# EAGLE library part FPGA,EP4SGX70DF29(STRATIX4GX,780BGA) (library QuantumOptics)
FPGA, Stratix IV GX EP4SGX70
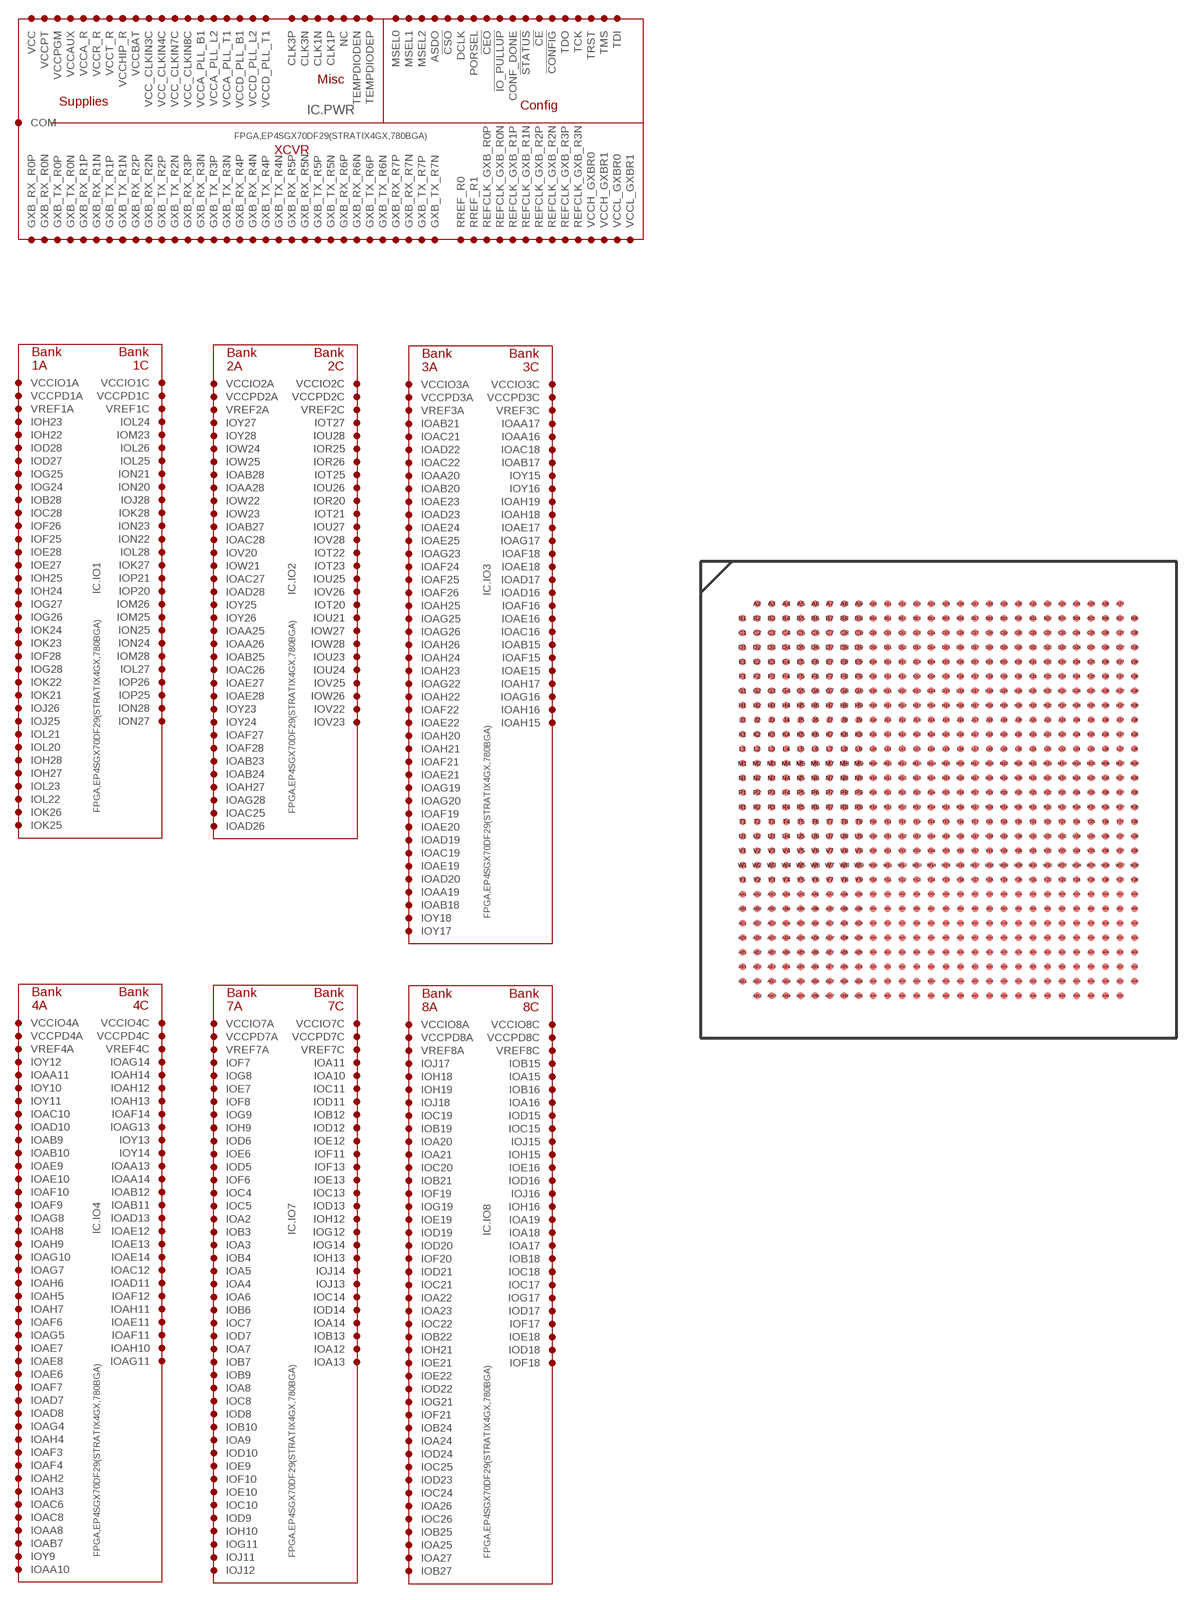
[diagram p210: symbol with the pads of BGA-780(1MM_GRID),ALTERA; footprint BGA-780(1MM_GRID),ALTERA]

Designator prefix IC; gates .PWR=FPGA,EP4SGX70DF29(STRATIX4GX,780BGA)[POWER] .IO1=FPGA,EP4SGX70DF29(STRATIX4GX,780BGA)[IO1] .IO2=FPGA,EP4SGX70DF29(STRATIX4GX,780BGA)[IO2] .IO3=FPGA,EP4SGX70DF29(STRATIX4GX,780BGA)[IO3] .IO4=FPGA,EP4SGX70DF29(STRATIX4GX,780BGA)[IO4] .IO7=FPGA,EP4SGX70DF29(STRATIX4GX,780BGA)[IO7] .IO8=FPGA,EP4SGX70DF29(STRATIX4GX,780BGA)[IO8]

## FPGA,EP4SGX70DF29(STRATIX4GX,780BGA)-BGA780(1MM)  [BGA-780(1MM_GRID),ALTERA]
A2  .IO7:IOA2
A3  .IO7:IOA3
A4  .IO7:IOA4
A5  .IO7:IOA5
A6  .IO7:IOA6
A7  .IO7:IOA7
A8  .IO7:IOA8
A9  .IO7:IOA9
A10  .IO7:IOA10
A11  .IO7:IOA11
A12  .IO7:IOA12
A13  .IO7:IOA13
A14  .IO7:IOA14
A15  .IO8:IOA15
A16  .IO8:IOA16
A17  .IO8:IOA17
A18  .IO8:IOA18
A19  .IO8:IOA19
A20  .IO8:IOA20
A21  .IO8:IOA21
A22  .IO8:IOA22
A23  .IO8:IOA23
A24  .IO8:IOA24
A25  .IO8:IOA25
A26  .IO8:IOA26
A27  .IO8:IOA27
AA1  .PWR:COM
AA2  .PWR:COM
AA3  .PWR:GXB_TX_R1N
AA4  .PWR:GXB_TX_R1P
AA5  .PWR:NC  nc
AA6  .PWR:COM
AA7  .PWR:VCCAUX
AA8  .IO4:IOAA8
AA9  .PWR:COM
AA10  .IO4:IOAA10
AA11  .IO4:IOAA11
AA12  .PWR:COM
AA13  .IO4:IOAA13
AA14  .IO4:IOAA14
AA15  .PWR:COM
AA16  .IO3:IOAA16
AA17  .IO3:IOAA17
AA18  .PWR:COM
AA19  .IO3:IOAA19
AA20  .IO3:IOAA20
AA21  .PWR:COM
AA22  .PWR:!CONFIG
AA23  .IO2:VCCIO2A
AA24  .PWR:COM
AA25  .IO2:IOAA25
AA26  .IO2:IOAA26
AA27  .PWR:COM
AA28  .IO2:IOAA28
AB1  .PWR:GXB_RX_R1N
AB2  .PWR:GXB_RX_R1P
AB3  .PWR:COM
AB4  .PWR:COM
AB5  .PWR:NC  nc
AB6  .PWR:NC  nc
AB7  .IO4:IOAB7
AB8  .IO4:VREF4A
AB9  .IO4:IOAB9
AB10  .IO4:IOAB10
AB11  .IO4:IOAB11
AB12  .IO4:IOAB12
AB13  .IO4:VREF4C
AB14  .PWR:VCCPT
AB15  .IO3:IOAB15
AB16  .IO3:VREF3C
AB17  .IO3:IOAB17
AB18  .IO3:IOAB18
AB19  .IO3:VREF3A
AB20  .IO3:IOAB20
AB21  .IO3:IOAB21
AB22  .PWR:VCCAUX
AB23  .IO2:IOAB23
AB24  .IO2:IOAB24
AB25  .IO2:IOAB25
AB26  .IO2:VCCIO2A
AB27  .IO2:IOAB27
AB28  .IO2:IOAB28
AC1  .PWR:COM
AC2  .PWR:COM
AC3  .PWR:GXB_TX_R0N
AC4  .PWR:GXB_TX_R0P
AC5  .PWR:NC  nc
AC6  .IO4:IOAC6
AC7  .IO4:VCCIO4A
AC8  .IO4:IOAC8
AC9  .IO4:VCCIO4A
AC10  .IO4:IOAC10
AC11  .IO4:VCCIO4C
AC12  .IO4:IOAC12
AC13  .PWR:VCC_CLKIN4C
AC14  .PWR:VCCA_PLL_B1
AC15  .PWR:VCCD_PLL_B1
AC16  .IO3:IOAC16
AC17  .IO3:VCCIO3C
AC18  .IO3:IOAC18
AC19  .IO3:IOAC19
AC20  .IO3:VCCIO3A
AC21  .IO3:IOAC21
AC22  .IO3:IOAC22
AC23  .PWR:!STATUS
AC24  .PWR:CONF_DONE
AC25  .IO2:IOAC25
AC26  .IO2:IOAC26
AC27  .IO2:IOAC27
AC28  .IO2:IOAC28
AD1  .PWR:GXB_RX_R0N
AD2  .PWR:GXB_RX_R0P
AD3  .PWR:COM
AD4  .PWR:COM
AD5  .PWR:NC  nc
AD6  .PWR:COM
AD7  .IO4:IOAD7
AD8  .IO4:IOAD8
AD9  .PWR:COM
AD10  .IO4:IOAD10
AD11  .IO4:IOAD11
AD12  .PWR:COM
AD13  .IO4:IOAD13
AD14  .PWR:VCC_CLKIN3C
AD15  .PWR:COM
AD16  .IO3:IOAD16
AD17  .IO3:IOAD17
AD18  .PWR:COM
AD19  .IO3:IOAD19
AD20  .IO3:IOAD20
AD21  .PWR:COM
AD22  .IO3:IOAD22
AD23  .IO3:IOAD23
AD24  .PWR:COM
AD25  .IO2:VCCIO2A
AD26  .IO2:IOAD26
AD27  .PWR:COM
AD28  .IO2:IOAD28
AE1  .PWR:COM
AE2  .PWR:COM
AE3  .PWR:NC  nc
AE4  .PWR:NC  nc
AE5  .PWR:NC  nc
AE6  .IO4:IOAE6
AE7  .IO4:IOAE7
AE8  .IO4:IOAE8
AE9  .IO4:IOAE9
AE10  .IO4:IOAE10
AE11  .IO4:IOAE11
AE12  .IO4:IOAE12
AE13  .IO4:IOAE13
AE14  .IO4:IOAE14
AE15  .IO3:IOAE15
AE16  .IO3:IOAE16
AE17  .IO3:IOAE17
AE18  .IO3:IOAE18
AE19  .IO3:IOAE19
AE20  .IO3:IOAE20
AE21  .IO3:IOAE21
AE22  .IO3:IOAE22
AE23  .IO3:IOAE23
AE24  .IO3:IOAE24
AE25  .IO3:IOAE25
AE26  .PWR:NC  nc
AE27  .IO2:IOAE27
AE28  .IO2:IOAE28
AF1  .PWR:RREF_R0
AF2  .PWR:COM
AF3  .IO4:IOAF3
AF4  .IO4:IOAF4
AF5  .IO4:VCCIO4A
AF6  .IO4:IOAF6
AF7  .IO4:IOAF7
AF8  .IO4:VCCIO4A
AF9  .IO4:IOAF9
AF10  .IO4:IOAF10
AF11  .IO4:IOAF11
AF12  .IO4:IOAF12
AF13  .IO4:VCCIO4C
AF14  .IO4:IOAF14
AF15  .IO3:IOAF15
AF16  .IO3:IOAF16
AF17  .IO3:VCCIO3C
AF18  .IO3:IOAF18
AF19  .IO3:IOAF19
AF20  .IO3:VCCIO3A
AF21  .IO3:IOAF21
AF22  .IO3:IOAF22
AF23  .IO3:VCCIO3A
AF24  .IO3:IOAF24
AF25  .IO3:IOAF25
AF26  .IO3:IOAF26
AF27  .IO2:IOAF27
AF28  .IO2:IOAF28
AG1  .PWR:COM
AG2  .PWR:COM
AG3  .PWR:COM
AG4  .IO4:IOAG4
AG5  .IO4:IOAG5
AG6  .PWR:COM
AG7  .IO4:IOAG7
AG8  .IO4:IOAG8
AG9  .PWR:COM
AG10  .IO4:IOAG10
AG11  .IO4:IOAG11
AG12  .PWR:COM
AG13  .IO4:IOAG13
AG14  .IO4:IOAG14
AG15  .PWR:COM
AG16  .IO3:IOAG16
AG17  .IO3:IOAG17
AG18  .PWR:COM
AG19  .IO3:IOAG19
AG20  .IO3:IOAG20
AG21  .PWR:COM
AG22  .IO3:IOAG22
AG23  .IO3:IOAG23
AG24  .PWR:COM
AG25  .IO3:IOAG25
AG26  .IO3:IOAG26
AG27  .PWR:COM
AG28  .IO2:IOAG28
AH2  .IO4:IOAH2
AH3  .IO4:IOAH3
AH4  .IO4:IOAH4
AH5  .IO4:IOAH5
AH6  .IO4:IOAH6
AH7  .IO4:IOAH7
AH8  .IO4:IOAH8
AH9  .IO4:IOAH9
AH10  .IO4:IOAH10
AH11  .IO4:IOAH11
AH12  .IO4:IOAH12
AH13  .IO4:IOAH13
AH14  .IO4:IOAH14
AH15  .IO3:IOAH15
AH16  .IO3:IOAH16
AH17  .IO3:IOAH17
AH18  .IO3:IOAH18
AH19  .IO3:IOAH19
AH20  .IO3:IOAH20
AH21  .IO3:IOAH21
AH22  .IO3:IOAH22
AH23  .IO3:IOAH23
AH24  .IO3:IOAH24
AH25  .IO3:IOAH25
AH26  .IO3:IOAH26
AH27  .IO2:IOAH27
B1  .PWR:NC  nc
B2  .PWR:COM
B3  .IO7:IOB3
B4  .IO7:IOB4
B5  .PWR:COM
B6  .IO7:IOB6
B7  .IO7:IOB7
B8  .PWR:COM
B9  .IO7:IOB9
B10  .IO7:IOB10
B11  .PWR:COM
B12  .IO7:IOB12
B13  .IO7:IOB13
B14  .PWR:COM
B15  .IO8:IOB15
B16  .IO8:IOB16
B17  .PWR:COM
B18  .IO8:IOB18
B19  .IO8:IOB19
B20  .PWR:COM
B21  .IO8:IOB21
B22  .IO8:IOB22
B23  .PWR:COM
B24  .IO8:IOB24
B25  .IO8:IOB25
B26  .PWR:COM
B27  .IO8:IOB27
B28  .IO1:IOB28
C1  .PWR:COM
C2  .PWR:COM
C3  .PWR:NC  nc
C4  .IO7:IOC4
C5  .IO7:IOC5
C6  .IO7:VCCIO7A
C7  .IO7:IOC7
C8  .IO7:IOC8
C9  .IO7:VCCIO7A
C10  .IO7:IOC10
C11  .IO7:IOC11
C12  .IO7:VCCIO7C
C13  .IO7:IOC13
C14  .IO7:IOC14
C15  .IO8:IOC15
C16  .IO8:VCCIO8C
C17  .IO8:IOC17
C18  .IO8:IOC18
C19  .IO8:IOC19
C20  .IO8:IOC20
C21  .IO8:IOC21
C22  .IO8:IOC22
C23  .IO8:VCCIO8A
C24  .IO8:IOC24
C25  .IO8:IOC25
C26  .IO8:IOC26
C27  .PWR:COM
C28  .IO1:IOC28
D1  .PWR:RREF_R1
D2  .PWR:COM
D3  .PWR:COM
D4  .PWR:COM
D5  .IO7:IOD5
D6  .IO7:IOD6
D7  .IO7:IOD7
D8  .IO7:IOD8
D9  .IO7:IOD9
D10  .IO7:IOD10
D11  .IO7:IOD11
D12  .IO7:IOD12
D13  .IO7:IOD13
D14  .IO7:IOD14
D15  .IO8:IOD15
D16  .IO8:IOD16
D17  .IO8:IOD17
D18  .IO8:IOD18
D19  .IO8:IOD19
D20  .IO8:IOD20
D21  .IO8:IOD21
D22  .IO8:IOD22
D23  .IO8:IOD23
D24  .IO8:IOD24
D25  .PWR:TCK
D26  .PWR:TRST
D27  .IO1:IOD27
D28  .IO1:IOD28
E1  .PWR:COM
E2  .PWR:COM
E3  .PWR:GXB_TX_R7N
E4  .PWR:GXB_TX_R7P
E5  .PWR:COM
E6  .IO7:IOE6
E7  .IO7:IOE7
E8  .PWR:COM
E9  .IO7:IOE9
E10  .IO7:IOE10
E11  .PWR:COM
E12  .IO7:IOE12
E13  .IO7:IOE13
E14  .PWR:COM
E15  .PWR:VCCA_PLL_T1
E16  .IO8:IOE16
E17  .PWR:COM
E18  .IO8:IOE18
E19  .IO8:IOE19
E20  .PWR:COM
E21  .IO8:IOE21
E22  .IO8:IOE22
E23  .PWR:COM
E24  .IO8:VCCIO8A
E25  .PWR:TDO
E26  .IO1:VCCIO1A
E27  .IO1:IOE27
E28  .IO1:IOE28
F1  .PWR:GXB_RX_R7N
F2  .PWR:GXB_RX_R7P
F3  .PWR:COM
F4  .PWR:COM
F5  .PWR:NC  nc
F6  .IO7:IOF6
F7  .IO7:IOF7
F8  .IO7:IOF8
F9  .IO7:VCCIO7A
F10  .IO7:IOF10
F11  .IO7:IOF11
F12  .IO7:VCCIO7C
F13  .IO7:IOF13
F14  .PWR:VCC_CLKIN7C
F15  .PWR:VCCD_PLL_T1
F16  .PWR:VCC_CLKIN8C
F17  .IO8:IOF17
F18  .IO8:IOF18
F19  .IO8:IOF19
F20  .IO8:IOF20
F21  .IO8:IOF21
F22  .IO8:VCCIO8A
F23  .PWR:NC  nc
F24  .PWR:COM
F25  .IO1:IOF25
F26  .IO1:IOF26
F27  .PWR:COM
F28  .IO1:IOF28
G1  .PWR:COM
G2  .PWR:COM
G3  .PWR:GXB_TX_R6N
G4  .PWR:GXB_TX_R6P
G5  .PWR:NC  nc
G6  .PWR:TEMPDIODEP
G7  .PWR:VCCAUX
G8  .IO7:IOG8
G9  .IO7:IOG9
G10  .IO7:VREF7A
G11  .IO7:IOG11
G12  .IO7:IOG12
G13  .IO7:VREF7C
G14  .IO7:IOG14
G15  .PWR:VCCPT
G16  .IO8:VREF8C
G17  .IO8:IOG17
G18  .IO8:VCCIO8C
G19  .IO8:IOG19
G20  .IO8:VREF8A
G21  .IO8:IOG21
G22  .PWR:VCCAUX
G23  .PWR:TMS
G24  .IO1:IOG24
G25  .IO1:IOG25
G26  .IO1:IOG26
G27  .IO1:IOG27
G28  .IO1:IOG28
H1  .PWR:GXB_RX_R6N
H2  .PWR:GXB_RX_R6P
H3  .PWR:COM
H4  .PWR:COM
H5  .PWR:COM
H6  .PWR:VCCBAT
H7  .PWR:TEMPDIODEN
H8  .PWR:COM
H9  .IO7:IOH9
H10  .IO7:IOH10
H11  .PWR:COM
H12  .IO7:IOH12
H13  .IO7:IOH13
H14  .PWR:COM
H15  .IO8:IOH15
H16  .IO8:IOH16
H17  .PWR:COM
H18  .IO8:IOH18
H19  .IO8:IOH19
H20  .PWR:COM
H21  .IO8:IOH21
H22  .IO1:IOH22
H23  .IO1:IOH23
H24  .IO1:IOH24
H25  .IO1:IOH25
H26  .IO1:VCCIO1A
H27  .IO1:IOH27
H28  .IO1:IOH28
J1  .PWR:COM
J2  .PWR:COM
J3  .PWR:REFCLK_GXB_R3N
J4  .PWR:REFCLK_GXB_R3P
J5  .PWR:NC  nc
J6  .PWR:NC  nc
J7  .PWR:MSEL2
J8  .PWR:NC  nc
J9  .PWR:MSEL1
J10  .IO7:VCCIO7A
J11  .IO7:IOJ11
J12  .IO7:IOJ12
J13  .IO7:IOJ13
J14  .IO7:IOJ14
J15  .IO8:IOJ15
J16  .IO8:IOJ16
J17  .IO8:IOJ17
J18  .IO8:IOJ18
J19  .IO8:VCCIO8A
J20  .PWR:TDI
J21  .PWR:COM
J22  .IO1:VREF1A
J23  .IO1:VCCIO1A
J24  .PWR:COM
J25  .IO1:IOJ25
J26  .IO1:IOJ26
J27  .PWR:COM
J28  .IO1:IOJ28
K1  .PWR:REFCLK_GXB_R2N
K2  .PWR:REFCLK_GXB_R2P
K3  .PWR:COM
K4  .PWR:COM
K5  .PWR:NC  nc
K6  .PWR:NC  nc
K7  .PWR:NC  nc
K8  .PWR:NC  nc
K9  .PWR:MSEL0
K10  .PWR:NC  nc
K11  .PWR:COM
K12  .IO7:VCCPD7A
K13  .PWR:COM
K14  .IO7:VCCPD7C
K15  .PWR:COM
K16  .IO8:VCCPD8C
K17  .PWR:COM
K18  .IO8:VCCPD8A
K19  .PWR:COM
K20  .PWR:NC  nc
K21  .IO1:IOK21
K22  .IO1:IOK22
K23  .IO1:IOK23
K24  .IO1:IOK24
K25  .IO1:IOK25
K26  .IO1:IOK26
K27  .IO1:IOK27
K28  .IO1:IOK28
L1  .PWR:COM
L2  .PWR:COM
L3  .PWR:GXB_TX_R5N
L4  .PWR:GXB_TX_R5P
L5  .PWR:COM
L6  .PWR:VCCH_GXBR1
L7  .PWR:NC  nc
L8  .PWR:COM
L9  .PWR:NC  nc
L10  .PWR:NC  nc
L11  .PWR:VCC
L12  .PWR:COM
L13  .PWR:VCC
L14  .PWR:COM
L15  .PWR:VCC
L16  .PWR:COM
L17  .PWR:VCC
L18  .PWR:COM
L19  .IO1:VCCPD1A
L20  .IO1:IOL20
L21  .IO1:IOL21
L22  .IO1:IOL22
L23  .IO1:IOL23
L24  .IO1:IOL24
L25  .IO1:IOL25
L26  .IO1:IOL26
L27  .IO1:IOL27
L28  .IO1:IOL28
M1  .PWR:GXB_RX_R5N
M2  .PWR:GXB_RX_R5P
M3  .PWR:COM
M4  .PWR:COM
M5  .PWR:VCCR_R
M6  .PWR:COM
M7  .PWR:VCC
M8  .PWR:VCC
M9  .PWR:NC  nc
M10  .PWR:NC  nc
M11  .PWR:COM
M12  .PWR:VCC
M13  .PWR:COM
M14  .PWR:VCC
M15  .PWR:COM
M16  .PWR:VCC
M17  .PWR:COM
M18  .PWR:VCC
M19  .PWR:COM
M20  .PWR:NC  nc
M21  .PWR:COM
M22  .IO1:VREF1C
M23  .IO1:IOM23
M24  .PWR:COM
M25  .IO1:IOM25
M26  .IO1:IOM26
M27  .PWR:COM
M28  .IO1:IOM28
N1  .PWR:COM
N2  .PWR:COM
N3  .PWR:GXB_TX_R4N
N4  .PWR:GXB_TX_R4P
N5  .PWR:COM
N6  .PWR:VCCA_R
N7  .PWR:COM
N8  .PWR:VCCL_GXBR1
N9  .PWR:VCCHIP_R
N10  .PWR:NC  nc
N11  .PWR:VCC
N12  .PWR:COM
N13  .PWR:VCC
N14  .PWR:COM
N15  .PWR:VCC
N16  .PWR:COM
N17  .PWR:VCC
N18  .PWR:COM
N19  .IO1:VCCPD1C
N20  .IO1:ION20
N21  .IO1:ION21
N22  .IO1:ION22
N23  .IO1:ION23
N24  .IO1:ION24
N25  .IO1:ION25
N26  .IO1:VCCIO1C
N27  .IO1:ION27
N28  .IO1:ION28
P1  .PWR:GXB_RX_R4N
P2  .PWR:GXB_RX_R4P
P3  .PWR:COM
P4  .PWR:COM
P5  .PWR:VCCT_R
P6  .PWR:COM
P7  .PWR:VCCL_GXBR1
P8  .PWR:COM
P9  .PWR:VCCHIP_R
P10  .PWR:VCCPT
P11  .PWR:COM
P12  .PWR:VCC
P13  .PWR:COM
P14  .PWR:VCC
P15  .PWR:COM
P16  .PWR:VCC
P17  .PWR:COM
P18  .PWR:VCC
P19  .PWR:COM
P20  .IO1:IOP20
P21  .IO1:IOP21
P22  .PWR:VCCPT
P23  .PWR:VCCD_PLL_L2
P24  .IO1:VCCIO1C
P25  .IO1:IOP25
P26  .IO1:IOP26
P27  .PWR:CLK1P
P28  .PWR:CLK1N
R1  .PWR:COM
R2  .PWR:COM
R3  .PWR:GXB_TX_R3N
R4  .PWR:GXB_TX_R3P
R5  .PWR:COM
R6  .PWR:VCCR_R
R7  .PWR:COM
R8  .PWR:VCCL_GXBR0
R9  .PWR:VCCHIP_R
R10  .PWR:VCCPT
R11  .PWR:VCC
R12  .PWR:COM
R13  .PWR:VCC
R14  .PWR:NC  nc
R15  .PWR:VCC
R16  .PWR:COM
R17  .PWR:VCC
R18  .PWR:COM
R19  .IO2:VCCPD2C
R20  .IO2:IOR20
R21  .PWR:COM
R22  .PWR:VCCPT
R23  .PWR:VCCA_PLL_L2
R24  .PWR:COM
R25  .IO2:IOR25
R26  .IO2:IOR26
R27  .PWR:COM
R28  .PWR:CLK3N
T1  .PWR:GXB_RX_R3N
T2  .PWR:GXB_RX_R3P
T3  .PWR:COM
T4  .PWR:COM
T5  .PWR:VCCA_R
T6  .PWR:COM
T7  .PWR:VCCL_GXBR0
T8  .PWR:COM
T9  .PWR:NC  nc
T10  .PWR:NC  nc
T11  .PWR:COM
T12  .PWR:VCC
T13  .PWR:COM
T14  .PWR:VCC
T15  .PWR:COM
T16  .PWR:VCC
T17  .PWR:COM
T18  .PWR:VCC
T19  .PWR:COM
T20  .IO2:IOT20
T21  .IO2:IOT21
T22  .IO2:IOT22
T23  .IO2:IOT23
T24  .IO2:VCCIO2C
T25  .IO2:IOT25
T26  .IO2:VCCIO2C
T27  .IO2:IOT27
T28  .PWR:CLK3P
U1  .PWR:COM
U2  .PWR:COM
U3  .PWR:GXB_TX_R2N
U4  .PWR:GXB_TX_R2P
U5  .PWR:COM
U6  .PWR:VCCT_R
U7  .PWR:VCC
U8  .PWR:VCC
U9  .PWR:NC  nc
U10  .PWR:NC  nc
U11  .PWR:VCC
U12  .PWR:COM
U13  .PWR:VCC
U14  .PWR:COM
U15  .PWR:VCC
U16  .PWR:COM
U17  .PWR:VCC
U18  .PWR:COM
U19  .IO2:VCCPD2A
U20  .PWR:NC  nc
U21  .IO2:IOU21
U22  .IO2:VREF2C
U23  .IO2:IOU23
U24  .IO2:IOU24
U25  .IO2:IOU25
U26  .IO2:IOU26
U27  .IO2:IOU27
U28  .IO2:IOU28
V1  .PWR:GXB_RX_R2N
V2  .PWR:GXB_RX_R2P
V3  .PWR:COM
V4  .PWR:COM
V5  .PWR:VCCH_GXBR0
V6  .PWR:COM
V7  .PWR:NC  nc
V8  .PWR:NC  nc
V9  .PWR:COM
V10  .PWR:NC  nc
V11  .PWR:COM
V12  .PWR:VCC
V13  .PWR:COM
V14  .PWR:VCC
V15  .PWR:COM
V16  .PWR:VCC
V17  .PWR:COM
V18  .PWR:VCC
V19  .PWR:COM
V20  .IO2:IOV20
V21  .PWR:COM
V22  .IO2:IOV22
V23  .IO2:IOV23
V24  .PWR:COM
V25  .IO2:IOV25
V26  .IO2:IOV26
V27  .PWR:COM
V28  .IO2:IOV28
W1  .PWR:COM
W2  .PWR:COM
W3  .PWR:REFCLK_GXB_R1N
W4  .PWR:REFCLK_GXB_R1P
W5  .PWR:NC  nc
W6  .PWR:!CEO
W7  .PWR:!CSO
W8  .PWR:COM
W9  .PWR:VCCPGM
W10  .PWR:NC  nc
W11  .IO4:VCCPD4A
W12  .PWR:COM
W13  .IO4:VCCPD4C
W14  .PWR:COM
W15  .IO3:VCCPD3C
W16  .PWR:COM
W17  .IO3:VCCPD3A
W18  .PWR:COM
W19  .PWR:COM
W20  .PWR:PORSEL
W21  .IO2:IOW21
W22  .IO2:IOW22
W23  .IO2:IOW23
W24  .IO2:IOW24
W25  .IO2:IOW25
W26  .IO2:IOW26
W27  .IO2:IOW27
W28  .IO2:IOW28
Y1  .PWR:REFCLK_GXB_R0N
Y2  .PWR:REFCLK_GXB_R0P
Y3  .PWR:COM
Y4  .PWR:COM
Y5  .PWR:NC  nc
Y6  .PWR:DCLK
Y7  .PWR:ASDO
Y8  .PWR:!IO_PULLUP
Y9  .IO4:IOY9
Y10  .IO4:IOY10
Y11  .IO4:IOY11
Y12  .IO4:IOY12
Y13  .IO4:IOY13
Y14  .IO4:IOY14
Y15  .IO3:IOY15
Y16  .IO3:IOY16
Y17  .IO3:IOY17
Y18  .IO3:IOY18
Y19  .IO3:VCCIO3A
Y20  .PWR:VCCPGM
Y21  .PWR:!CE
Y22  .IO2:VREF2A
Y23  .IO2:IOY23
Y24  .IO2:IOY24
Y25  .IO2:IOY25
Y26  .IO2:IOY26
Y27  .IO2:IOY27
Y28  .IO2:IOY28

## Footprint BGA-780(1MM_GRID),ALTERA (pad centres in mm)
780-Pin BGA on 1mm grid (HBGA) Flip Chip using NSMD rules (Non-Solder Mask Defined) from Altera's AAN114. Based on Altera's EP4SE230F29.bsd. Layout: Pads 0.47mm, leaving 0.53mm space (at closest) for 0.173mm (6.82m") track and space. Refer to AN114 page 9 for capture via dimensions.
smd 0.47 x 0.47: A2 -12.5,13.5; A3 -11.5,13.5; A4 -10.5,13.5; A5 -9.5,13.5; A6 -8.5,13.5; A7 -7.5,13.5; A8 -6.5,13.5; A9 -5.5,13.5; A10 -4.5,13.5; A11 -3.5,13.5; A12 -2.5,13.5; A13 -1.5,13.5; A14 -0.5,13.5; A15 0.5,13.5; A16 1.5,13.5; A17 2.5,13.5; A18 3.5,13.5; A19 4.5,13.5; A20 5.5,13.5; A21 6.5,13.5; A22 7.5,13.5; A23 8.5,13.5; A24 9.5,13.5; A25 10.5,13.5; A26 11.5,13.5; A27 12.5,13.5; AA1 -13.5,-6.5; AA2 -12.5,-6.5; AA3 -11.5,-6.5; AA4 -10.5,-6.5; AA5 -9.5,-6.5; AA6 -8.5,-6.5; AA7 -7.5,-6.5; AA8 -6.5,-6.5; AA9 -5.5,-6.5; AA10 -4.5,-6.5; AA11 -3.5,-6.5; AA12 -2.5,-6.5; AA13 -1.5,-6.5; AA14 -0.5,-6.5; AA15 0.5,-6.5; AA16 1.5,-6.5; AA17 2.5,-6.5; AA18 3.5,-6.5; AA19 4.5,-6.5; AA20 5.5,-6.5; AA21 6.5,-6.5; AA22 7.5,-6.5; AA23 8.5,-6.5; AA24 9.5,-6.5; AA25 10.5,-6.5; AA26 11.5,-6.5; AA27 12.5,-6.5; AA28 13.5,-6.5; AB1 -13.5,-7.5; AB2 -12.5,-7.5; AB3 -11.5,-7.5; AB4 -10.5,-7.5; AB5 -9.5,-7.5; AB6 -8.5,-7.5; AB7 -7.5,-7.5; AB8 -6.5,-7.5; AB9 -5.5,-7.5; AB10 -4.5,-7.5; AB11 -3.5,-7.5; AB12 -2.5,-7.5; AB13 -1.5,-7.5; AB14 -0.5,-7.5; AB15 0.5,-7.5; AB16 1.5,-7.5; AB17 2.5,-7.5; AB18 3.5,-7.5; AB19 4.5,-7.5; AB20 5.5,-7.5; AB21 6.5,-7.5; AB22 7.5,-7.5; AB23 8.5,-7.5; AB24 9.5,-7.5; AB25 10.5,-7.5; AB26 11.5,-7.5; AB27 12.5,-7.5; AB28 13.5,-7.5; AC1 -13.5,-8.5; AC2 -12.5,-8.5; AC3 -11.5,-8.5; AC4 -10.5,-8.5; AC5 -9.5,-8.5; AC6 -8.5,-8.5; AC7 -7.5,-8.5; AC8 -6.5,-8.5; AC9 -5.5,-8.5; AC10 -4.5,-8.5; AC11 -3.5,-8.5; AC12 -2.5,-8.5; AC13 -1.5,-8.5; AC14 -0.5,-8.5; AC15 0.5,-8.5; AC16 1.5,-8.5; AC17 2.5,-8.5; AC18 3.5,-8.5; AC19 4.5,-8.5; AC20 5.5,-8.5; AC21 6.5,-8.5; AC22 7.5,-8.5; AC23 8.5,-8.5; AC24 9.5,-8.5; AC25 10.5,-8.5; AC26 11.5,-8.5; AC27 12.5,-8.5; AC28 13.5,-8.5; AD1 -13.5,-9.5; AD2 -12.5,-9.5; AD3 -11.5,-9.5; AD4 -10.5,-9.5; AD5 -9.5,-9.5; AD6 -8.5,-9.5; AD7 -7.5,-9.5; AD8 -6.5,-9.5; AD9 -5.5,-9.5; AD10 -4.5,-9.5; AD11 -3.5,-9.5; AD12 -2.5,-9.5; AD13 -1.5,-9.5; AD14 -0.5,-9.5; AD15 0.5,-9.5; AD16 1.5,-9.5; AD17 2.5,-9.5; AD18 3.5,-9.5; AD19 4.5,-9.5; AD20 5.5,-9.5; AD21 6.5,-9.5; AD22 7.5,-9.5; AD23 8.5,-9.5; AD24 9.5,-9.5; AD25 10.5,-9.5; AD26 11.5,-9.5; AD27 12.5,-9.5; AD28 13.5,-9.5; AE1 -13.5,-10.5; AE2 -12.5,-10.5; AE3 -11.5,-10.5; AE4 -10.5,-10.5; AE5 -9.5,-10.5; AE6 -8.5,-10.5; AE7 -7.5,-10.5; AE8 -6.5,-10.5; AE9 -5.5,-10.5; AE10 -4.5,-10.5; AE11 -3.5,-10.5; AE12 -2.5,-10.5; AE13 -1.5,-10.5; AE14 -0.5,-10.5; AE15 0.5,-10.5; AE16 1.5,-10.5; AE17 2.5,-10.5; AE18 3.5,-10.5; AE19 4.5,-10.5; AE20 5.5,-10.5; AE21 6.5,-10.5; AE22 7.5,-10.5; AE23 8.5,-10.5; AE24 9.5,-10.5; AE25 10.5,-10.5; AE26 11.5,-10.5; AE27 12.5,-10.5; AE28 13.5,-10.5; AF1 -13.5,-11.5; AF2 -12.5,-11.5; AF3 -11.5,-11.5; AF4 -10.5,-11.5; AF5 -9.5,-11.5; AF6 -8.5,-11.5; AF7 -7.5,-11.5; AF8 -6.5,-11.5; AF9 -5.5,-11.5; AF10 -4.5,-11.5; AF11 -3.5,-11.5; AF12 -2.5,-11.5; AF13 -1.5,-11.5; AF14 -0.5,-11.5; AF15 0.5,-11.5; AF16 1.5,-11.5; AF17 2.5,-11.5; AF18 3.5,-11.5; AF19 4.5,-11.5; AF20 5.5,-11.5; AF21 6.5,-11.5; AF22 7.5,-11.5; AF23 8.5,-11.5; AF24 9.5,-11.5; AF25 10.5,-11.5; AF26 11.5,-11.5; AF27 12.5,-11.5; AF28 13.5,-11.5; AG1 -13.5,-12.5; AG2 -12.5,-12.5; AG3 -11.5,-12.5; AG4 -10.5,-12.5; AG5 -9.5,-12.5; AG6 -8.5,-12.5; AG7 -7.5,-12.5; AG8 -6.5,-12.5; AG9 -5.5,-12.5; AG10 -4.5,-12.5; AG11 -3.5,-12.5; AG12 -2.5,-12.5; AG13 -1.5,-12.5; AG14 -0.5,-12.5; AG15 0.5,-12.5; AG16 1.5,-12.5; AG17 2.5,-12.5; AG18 3.5,-12.5; AG19 4.5,-12.5; AG20 5.5,-12.5; AG21 6.5,-12.5; AG22 7.5,-12.5; AG23 8.5,-12.5; AG24 9.5,-12.5; AG25 10.5,-12.5; AG26 11.5,-12.5; AG27 12.5,-12.5; AG28 13.5,-12.5; AH2 -12.5,-13.5; AH3 -11.5,-13.5; AH4 -10.5,-13.5; AH5 -9.5,-13.5; AH6 -8.5,-13.5; AH7 -7.5,-13.5; AH8 -6.5,-13.5; AH9 -5.5,-13.5; AH10 -4.5,-13.5; AH11 -3.5,-13.5; AH12 -2.5,-13.5; AH13 -1.5,-13.5; AH14 -0.5,-13.5; AH15 0.5,-13.5; AH16 1.5,-13.5; AH17 2.5,-13.5; AH18 3.5,-13.5; AH19 4.5,-13.5; AH20 5.5,-13.5; AH21 6.5,-13.5; AH22 7.5,-13.5; AH23 8.5,-13.5; AH24 9.5,-13.5; AH25 10.5,-13.5; AH26 11.5,-13.5; AH27 12.5,-13.5; B1 -13.5,12.5; B2 -12.5,12.5; B3 -11.5,12.5; B4 -10.5,12.5; B5 -9.5,12.5; B6 -8.5,12.5; B7 -7.5,12.5; B8 -6.5,12.5; B9 -5.5,12.5; B10 -4.5,12.5; B11 -3.5,12.5; B12 -2.5,12.5; B13 -1.5,12.5; B14 -0.5,12.5; B15 0.5,12.5; B16 1.5,12.5; B17 2.5,12.5; B18 3.5,12.5; B19 4.5,12.5; B20 5.5,12.5; B21 6.5,12.5; B22 7.5,12.5; B23 8.5,12.5; B24 9.5,12.5; B25 10.5,12.5; B26 11.5,12.5; B27 12.5,12.5; B28 13.5,12.5; C1 -13.5,11.5; C2 -12.5,11.5; C3 -11.5,11.5; C4 -10.5,11.5; C5 -9.5,11.5; C6 -8.5,11.5; C7 -7.5,11.5; C8 -6.5,11.5; C9 -5.5,11.5; C10 -4.5,11.5; C11 -3.5,11.5; C12 -2.5,11.5; C13 -1.5,11.5; C14 -0.5,11.5; C15 0.5,11.5; C16 1.5,11.5; C17 2.5,11.5; C18 3.5,11.5; C19 4.5,11.5; C20 5.5,11.5; C21 6.5,11.5; C22 7.5,11.5; C23 8.5,11.5; C24 9.5,11.5; C25 10.5,11.5; C26 11.5,11.5; C27 12.5,11.5; C28 13.5,11.5; D1 -13.5,10.5; D2 -12.5,10.5; D3 -11.5,10.5; D4 -10.5,10.5; D5 -9.5,10.5; D6 -8.5,10.5; D7 -7.5,10.5; D8 -6.5,10.5; D9 -5.5,10.5; D10 -4.5,10.5; D11 -3.5,10.5; D12 -2.5,10.5; D13 -1.5,10.5; D14 -0.5,10.5; D15 0.5,10.5; D16 1.5,10.5; D17 2.5,10.5; D18 3.5,10.5; D19 4.5,10.5; D20 5.5,10.5; D21 6.5,10.5; D22 7.5,10.5; D23 8.5,10.5; D24 9.5,10.5; D25 10.5,10.5; D26 11.5,10.5; D27 12.5,10.5; D28 13.5,10.5; E1 -13.5,9.5; E2 -12.5,9.5; E3 -11.5,9.5; E4 -10.5,9.5; E5 -9.5,9.5; E6 -8.5,9.5; E7 -7.5,9.5; E8 -6.5,9.5; E9 -5.5,9.5; E10 -4.5,9.5; E11 -3.5,9.5; E12 -2.5,9.5; E13 -1.5,9.5; E14 -0.5,9.5; E15 0.5,9.5; E16 1.5,9.5; E17 2.5,9.5; E18 3.5,9.5; E19 4.5,9.5; E20 5.5,9.5; E21 6.5,9.5; E22 7.5,9.5; E23 8.5,9.5; E24 9.5,9.5; E25 10.5,9.5; E26 11.5,9.5; E27 12.5,9.5; E28 13.5,9.5; F1 -13.5,8.5; F2 -12.5,8.5; F3 -11.5,8.5; F4 -10.5,8.5; F5 -9.5,8.5; F6 -8.5,8.5; F7 -7.5,8.5; F8 -6.5,8.5; F9 -5.5,8.5; F10 -4.5,8.5; F11 -3.5,8.5; F12 -2.5,8.5; F13 -1.5,8.5; F14 -0.5,8.5; F15 0.5,8.5; F16 1.5,8.5; F17 2.5,8.5; F18 3.5,8.5; F19 4.5,8.5; F20 5.5,8.5; F21 6.5,8.5; F22 7.5,8.5; F23 8.5,8.5; F24 9.5,8.5; F25 10.5,8.5; F26 11.5,8.5; F27 12.5,8.5; F28 13.5,8.5; G1 -13.5,7.5; G2 -12.5,7.5; G3 -11.5,7.5; G4 -10.5,7.5; G5 -9.5,7.5; G6 -8.5,7.5; G7 -7.5,7.5; G8 -6.5,7.5; G9 -5.5,7.5; G10 -4.5,7.5; G11 -3.5,7.5; G12 -2.5,7.5; G13 -1.5,7.5; G14 -0.5,7.5; G15 0.5,7.5; G16 1.5,7.5; G17 2.5,7.5; G18 3.5,7.5; G19 4.5,7.5; G20 5.5,7.5; G21 6.5,7.5; G22 7.5,7.5; G23 8.5,7.5; G24 9.5,7.5; G25 10.5,7.5; G26 11.5,7.5; G27 12.5,7.5; G28 13.5,7.5; H1 -13.5,6.5; H2 -12.5,6.5; H3 -11.5,6.5; H4 -10.5,6.5; H5 -9.5,6.5; H6 -8.5,6.5; H7 -7.5,6.5; H8 -6.5,6.5; H9 -5.5,6.5; H10 -4.5,6.5; H11 -3.5,6.5; H12 -2.5,6.5; H13 -1.5,6.5; H14 -0.5,6.5; H15 0.5,6.5; H16 1.5,6.5; H17 2.5,6.5; H18 3.5,6.5; H19 4.5,6.5; H20 5.5,6.5; H21 6.5,6.5; H22 7.5,6.5; H23 8.5,6.5; H24 9.5,6.5; H25 10.5,6.5; H26 11.5,6.5; H27 12.5,6.5; H28 13.5,6.5; J1 -13.5,5.5; J2 -12.5,5.5; J3 -11.5,5.5; J4 -10.5,5.5; J5 -9.5,5.5; J6 -8.5,5.5; J7 -7.5,5.5; J8 -6.5,5.5; J9 -5.5,5.5; J10 -4.5,5.5; J11 -3.5,5.5; J12 -2.5,5.5; J13 -1.5,5.5; J14 -0.5,5.5; J15 0.5,5.5; J16 1.5,5.5; J17 2.5,5.5; J18 3.5,5.5; J19 4.5,5.5; J20 5.5,5.5; J21 6.5,5.5; J22 7.5,5.5; J23 8.5,5.5; J24 9.5,5.5; J25 10.5,5.5; J26 11.5,5.5; J27 12.5,5.5; J28 13.5,5.5; K1 -13.5,4.5; K2 -12.5,4.5; K3 -11.5,4.5; K4 -10.5,4.5; K5 -9.5,4.5; K6 -8.5,4.5; K7 -7.5,4.5; K8 -6.5,4.5; K9 -5.5,4.5; K10 -4.5,4.5; K11 -3.5,4.5; K12 -2.5,4.5; K13 -1.5,4.5; K14 -0.5,4.5; K15 0.5,4.5; K16 1.5,4.5; K17 2.5,4.5; K18 3.5,4.5; K19 4.5,4.5; K20 5.5,4.5; K21 6.5,4.5; K22 7.5,4.5; K23 8.5,4.5; K24 9.5,4.5; K25 10.5,4.5; K26 11.5,4.5; K27 12.5,4.5; K28 13.5,4.5; L1 -13.5,3.5; L2 -12.5,3.5; L3 -11.5,3.5; L4 -10.5,3.5; L5 -9.5,3.5; L6 -8.5,3.5; L7 -7.5,3.5; L8 -6.5,3.5; L9 -5.5,3.5; L10 -4.5,3.5; L11 -3.5,3.5; L12 -2.5,3.5; L13 -1.5,3.5; L14 -0.5,3.5; L15 0.5,3.5; L16 1.5,3.5; L17 2.5,3.5; L18 3.5,3.5; L19 4.5,3.5; L20 5.5,3.5; L21 6.5,3.5; L22 7.5,3.5; L23 8.5,3.5; L24 9.5,3.5; L25 10.5,3.5; L26 11.5,3.5; L27 12.5,3.5; L28 13.5,3.5; M1 -13.5,2.5; M2 -12.5,2.5; M3 -11.5,2.5; M4 -10.5,2.5; M5 -9.5,2.5; M6 -8.5,2.5; M7 -7.5,2.5; M8 -6.5,2.5; M9 -5.5,2.5; M10 -4.5,2.5; M11 -3.5,2.5; M12 -2.5,2.5; M13 -1.5,2.5; M14 -0.5,2.5; M15 0.5,2.5; M16 1.5,2.5; M17 2.5,2.5; M18 3.5,2.5; M19 4.5,2.5; M20 5.5,2.5; M21 6.5,2.5; M22 7.5,2.5; M23 8.5,2.5; M24 9.5,2.5; M25 10.5,2.5; M26 11.5,2.5; M27 12.5,2.5; M28 13.5,2.5; N1 -13.5,1.5; N2 -12.5,1.5; N3 -11.5,1.5; N4 -10.5,1.5; N5 -9.5,1.5; N6 -8.5,1.5; N7 -7.5,1.5; N8 -6.5,1.5; N9 -5.5,1.5; N10 -4.5,1.5; N11 -3.5,1.5; N12 -2.5,1.5; N13 -1.5,1.5; N14 -0.5,1.5; N15 0.5,1.5; N16 1.5,1.5; N17 2.5,1.5; N18 3.5,1.5; N19 4.5,1.5; N20 5.5,1.5; N21 6.5,1.5; N22 7.5,1.5; N23 8.5,1.5; N24 9.5,1.5; N25 10.5,1.5; N26 11.5,1.5; N27 12.5,1.5; N28 13.5,1.5; P1 -13.5,0.5; P2 -12.5,0.5; P3 -11.5,0.5; P4 -10.5,0.5; P5 -9.5,0.5; P6 -8.5,0.5; P7 -7.5,0.5; P8 -6.5,0.5; P9 -5.5,0.5; P10 -4.5,0.5; P11 -3.5,0.5; P12 -2.5,0.5; P13 -1.5,0.5; P14 -0.5,0.5; P15 0.5,0.5; P16 1.5,0.5; P17 2.5,0.5; P18 3.5,0.5; P19 4.5,0.5; P20 5.5,0.5; P21 6.5,0.5; P22 7.5,0.5; P23 8.5,0.5; P24 9.5,0.5; P25 10.5,0.5; P26 11.5,0.5; P27 12.5,0.5; P28 13.5,0.5; R1 -13.5,-0.5; R2 -12.5,-0.5; R3 -11.5,-0.5; R4 -10.5,-0.5; R5 -9.5,-0.5; R6 -8.5,-0.5; R7 -7.5,-0.5; R8 -6.5,-0.5; R9 -5.5,-0.5; R10 -4.5,-0.5; R11 -3.5,-0.5; R12 -2.5,-0.5; R13 -1.5,-0.5; R14 -0.5,-0.5; R15 0.5,-0.5; R16 1.5,-0.5; R17 2.5,-0.5; R18 3.5,-0.5; R19 4.5,-0.5; R20 5.5,-0.5; R21 6.5,-0.5; R22 7.5,-0.5; R23 8.5,-0.5; R24 9.5,-0.5; R25 10.5,-0.5; R26 11.5,-0.5; R27 12.5,-0.5; R28 13.5,-0.5; T1 -13.5,-1.5; T2 -12.5,-1.5; T3 -11.5,-1.5; T4 -10.5,-1.5; T5 -9.5,-1.5; T6 -8.5,-1.5; T7 -7.5,-1.5; T8 -6.5,-1.5; T9 -5.5,-1.5; T10 -4.5,-1.5; T11 -3.5,-1.5; T12 -2.5,-1.5; T13 -1.5,-1.5; T14 -0.5,-1.5; T15 0.5,-1.5; T16 1.5,-1.5; T17 2.5,-1.5; T18 3.5,-1.5; T19 4.5,-1.5; T20 5.5,-1.5; T21 6.5,-1.5; T22 7.5,-1.5; T23 8.5,-1.5; T24 9.5,-1.5; T25 10.5,-1.5; T26 11.5,-1.5; T27 12.5,-1.5; T28 13.5,-1.5; U1 -13.5,-2.5; U2 -12.5,-2.5; U3 -11.5,-2.5; U4 -10.5,-2.5; U5 -9.5,-2.5; U6 -8.5,-2.5; U7 -7.5,-2.5; U8 -6.5,-2.5; U9 -5.5,-2.5; U10 -4.5,-2.5; U11 -3.5,-2.5; U12 -2.5,-2.5; U13 -1.5,-2.5; U14 -0.5,-2.5; U15 0.5,-2.5; U16 1.5,-2.5; U17 2.5,-2.5; U18 3.5,-2.5; U19 4.5,-2.5; U20 5.5,-2.5; U21 6.5,-2.5; U22 7.5,-2.5; U23 8.5,-2.5; U24 9.5,-2.5; U25 10.5,-2.5; U26 11.5,-2.5; U27 12.5,-2.5; U28 13.5,-2.5; V1 -13.5,-3.5; V2 -12.5,-3.5; V3 -11.5,-3.5; V4 -10.5,-3.5; V5 -9.5,-3.5; V6 -8.5,-3.5; V7 -7.5,-3.5; V8 -6.5,-3.5; V9 -5.5,-3.5; V10 -4.5,-3.5; V11 -3.5,-3.5; V12 -2.5,-3.5; V13 -1.5,-3.5; V14 -0.5,-3.5; V15 0.5,-3.5; V16 1.5,-3.5; V17 2.5,-3.5; V18 3.5,-3.5; V19 4.5,-3.5; V20 5.5,-3.5; V21 6.5,-3.5; V22 7.5,-3.5; V23 8.5,-3.5; V24 9.5,-3.5; V25 10.5,-3.5; V26 11.5,-3.5; V27 12.5,-3.5; V28 13.5,-3.5; W1 -13.5,-4.5; W2 -12.5,-4.5; W3 -11.5,-4.5; W4 -10.5,-4.5; W5 -9.5,-4.5; W6 -8.5,-4.5; W7 -7.5,-4.5; W8 -6.5,-4.5; W9 -5.5,-4.5; W10 -4.5,-4.5; W11 -3.5,-4.5; W12 -2.5,-4.5; W13 -1.5,-4.5; W14 -0.5,-4.5; W15 0.5,-4.5; W16 1.5,-4.5; W17 2.5,-4.5; W18 3.5,-4.5; W19 4.5,-4.5; W20 5.5,-4.5; W21 6.5,-4.5; W22 7.5,-4.5; W23 8.5,-4.5; W24 9.5,-4.5; W25 10.5,-4.5; W26 11.5,-4.5; W27 12.5,-4.5; W28 13.5,-4.5; Y1 -13.5,-5.5; Y2 -12.5,-5.5; Y3 -11.5,-5.5; Y4 -10.5,-5.5; Y5 -9.5,-5.5; Y6 -8.5,-5.5; Y7 -7.5,-5.5; Y8 -6.5,-5.5; Y9 -5.5,-5.5; Y10 -4.5,-5.5; Y11 -3.5,-5.5; Y12 -2.5,-5.5; Y13 -1.5,-5.5; Y14 -0.5,-5.5; Y15 0.5,-5.5; Y16 1.5,-5.5; Y17 2.5,-5.5; Y18 3.5,-5.5; Y19 4.5,-5.5; Y20 5.5,-5.5; Y21 6.5,-5.5; Y22 7.5,-5.5; Y23 8.5,-5.5; Y24 9.5,-5.5; Y25 10.5,-5.5; Y26 11.5,-5.5; Y27 12.5,-5.5; Y28 13.5,-5.5